# Altium footprint library PCBLib_Bonjour.PcbLib: 10 footprints
Each footprint in its own frame and in the unit in brackets; x right, y up, seen from the top. Pads: shape width x height; smd on the part's side, far side on the other; paste and mask are expansions set on the pad; w line width, h text height; cw(c..) or ccw(c..) is an arc to the next point about the centre after c.
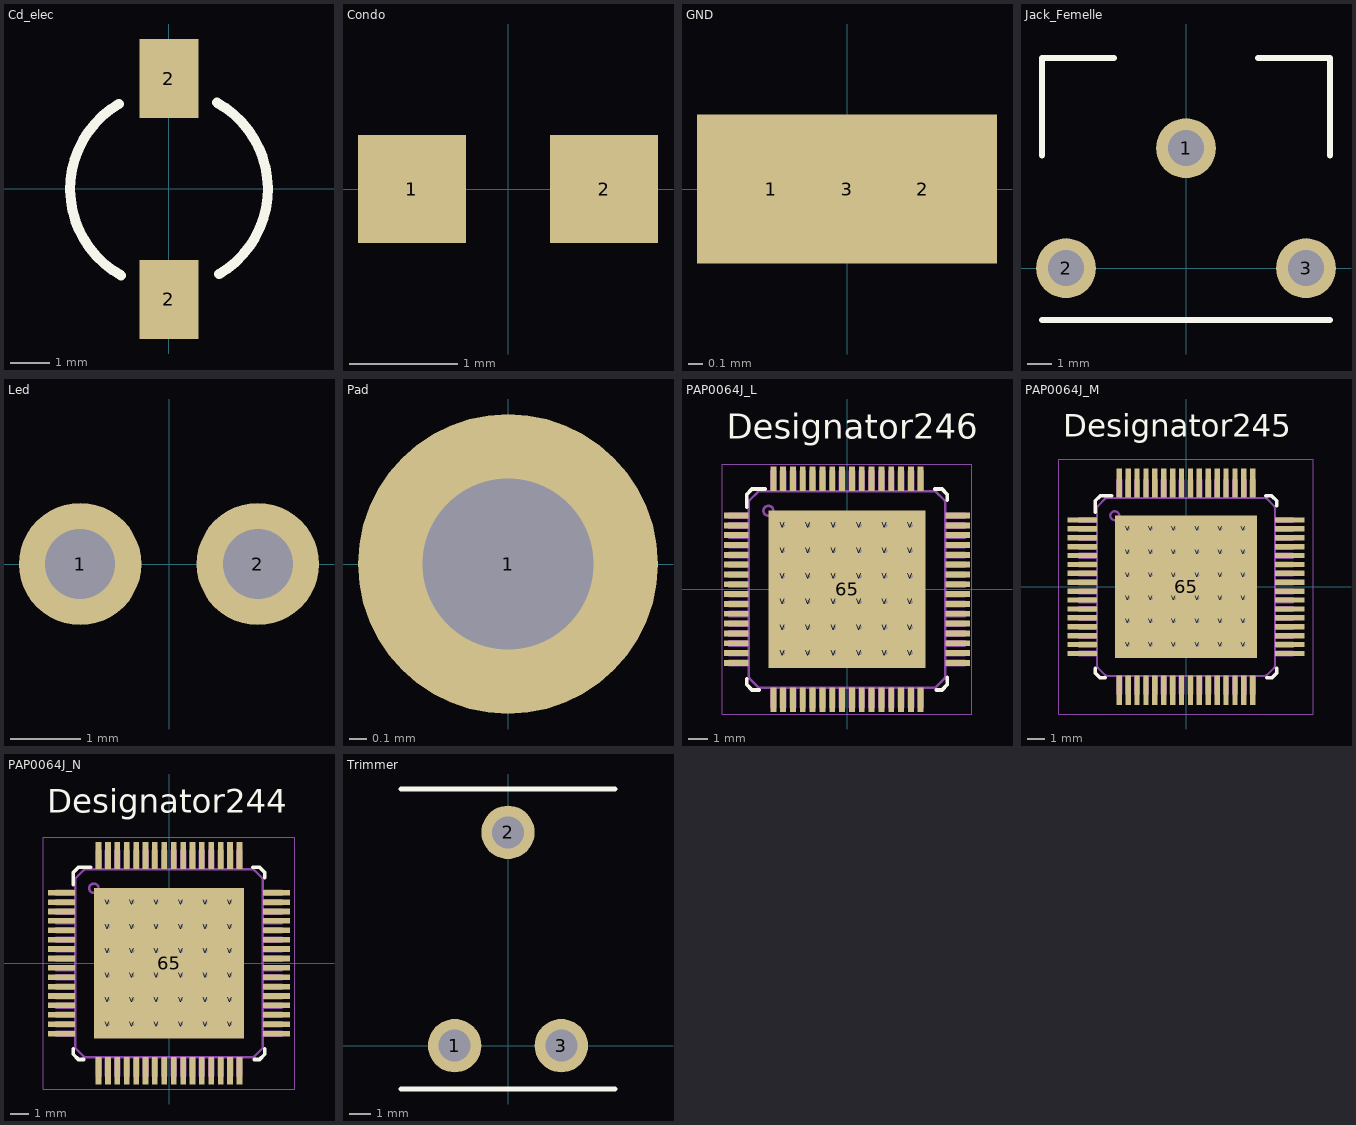
[diagram p0: the footprints below, top view; thin cyan lines are the x and y axes]

## Cd_elec [mm]
pads (2):
  rect 1.5x2 smd: 2(0,-2.794) 2(0,2.794)
Top Overlay:
  lines w0.254: -1.268,2.155 ccw(c0,0) -1.214,-2.185 ; 1.214,2.185 cw(c0,0) 1.268,-2.155

## Condo [mm]
pads (2):
  rect 1x1 smd: 1(-0.889,0) 2(0.889,0)

## GND [mm]
pads (3):
  rect 1x1 smd mask+0: 1(-0.508,0) 2(0.508,0) 3(0,0)

## Jack_Femelle [mm]
pads (3):
  round 2.5 hole 1.5: 1(0,5) 2(-5,0) 3(5,0)
Top Overlay:
  lines w0.254: -6,-2.159 6,-2.159 ; -6,4.699 -6,6.032 -6,8.763 -3,8.763 ; 3,8.763 6,8.763 6,6.032 6,4.699

## Led [mm]
pads (2):
  round 1.75 hole 1: 1(-1.27,0) 2(1.27,0)

## Pad [mm]
pads (1):
  round 1.75 hole 1: 1(0,0)

## PAP0064J_L [mm]
pads (101):
  rect 1.25x0.3 smd paste+0 mask+0.051: 1(-5.625,3.75) 2(-5.625,3.25) 3(-5.625,2.75) 4(-5.625,2.25) 5(-5.625,1.75) 6(-5.625,1.25) 7(-5.625,0.75) 8(-5.625,0.25) 9(-5.625,-0.25) 10(-5.625,-0.75) 11(-5.625,-1.25) 12(-5.625,-1.75) 13(-5.625,-2.25) 14(-5.625,-2.75) 15(-5.625,-3.25) 16(-5.625,-3.75) 33(5.625,-3.75) 34(5.625,-3.25) 35(5.625,-2.75) 36(5.625,-2.25) 37(5.625,-1.75) 38(5.625,-1.25) 39(5.625,-0.75) 40(5.625,-0.25) 41(5.625,0.25) 42(5.625,0.75) 43(5.625,1.25) 44(5.625,1.75) 45(5.625,2.25) 46(5.625,2.75) 47(5.625,3.25) 48(5.625,3.75)
  rect 0.3x1.25 smd paste+0 mask+0.051: 17(-3.75,-5.625) 18(-3.25,-5.625) 19(-2.75,-5.625) 20(-2.25,-5.625) 21(-1.75,-5.625) 22(-1.25,-5.625) 23(-0.75,-5.625) 24(-0.25,-5.625) 25(0.25,-5.625) 26(0.75,-5.625) 27(1.25,-5.625) 28(1.75,-5.625) 29(2.25,-5.625) 30(2.75,-5.625) 31(3.25,-5.625) 32(3.75,-5.625) 49(3.75,5.625) 50(3.25,5.625) 51(2.75,5.625) 52(2.25,5.625) 53(1.75,5.625) 54(1.25,5.625) 55(0.75,5.625) 56(0.25,5.625) 57(-0.25,5.625) 58(-0.75,5.625) 59(-1.25,5.625) 60(-1.75,5.625) 61(-2.25,5.625) 62(-2.75,5.625) 63(-3.25,5.625) 64(-3.75,5.625)
  rect 8x8 smd paste-3.987 mask-3.988: 65(0,0)
  round 0.5 / inner round 1.524 / far side round 0.5 hole 0.203 mask-0.241: V(-3.25,-3.25) V(-3.25,-1.95) V(-3.25,-0.65) V(-3.25,0.65) V(-3.25,1.95) V(-3.25,3.25) V(-1.95,-3.25) V(-1.95,-1.95) V(-1.95,-0.65) V(-1.95,0.65) V(-1.95,1.95) V(-1.95,3.25) V(-0.65,-3.25) V(-0.65,-1.95) V(-0.65,-0.65) V(-0.65,0.65) V(-0.65,1.95) V(-0.65,3.25) V(0.65,-3.25) V(0.65,-1.95) V(0.65,-0.65) V(0.65,0.65) V(0.65,1.95) V(0.65,3.25) V(1.95,-3.25) V(1.95,-1.95) V(1.95,-0.65) V(1.95,0.65) V(1.95,1.95) V(1.95,3.25) V(3.25,-3.25) V(3.25,-1.95) V(3.25,-0.65) V(3.25,0.65) V(3.25,1.95) V(3.25,3.25)
Top Overlay:
  lines w0.2: -5.1,-4.575 -5.1,-4.85 -4.825,-5.125 ; -5.1,4.175 -5.1,4.55 -5.1,4.75 -5.1,4.825 -4.825,5.1 -4.175,5.1 ; -4.75,-5.125 -4.55,-5.125 -4.475,-5.125 ; 4.475,5.1 4.55,5.1 4.75,5.1 ; 4.55,-5.125 4.825,-5.125 5.1,-4.85 ; 4.825,5.1 5.1,4.825 5.1,4.55 ; 5.1,-4.775 5.1,-4.575 5.1,-4.5
  text "Designator246" at -6.121,7.645 h1.27
  text "TOL" at 0,0 h1.27
  text "VAL" at 0,0 h1.27
  text "PN" at 0,0 h1.27
  text "DEV" at 0,0 h1.27
Top Paste:
  region: -3.499,-3.602 -3.5,-3.595 -3.5,3.595 -3.499,3.602 -3.497,3.608 -3.494,3.614 -3.49,3.62 -3.484,3.624 -3.478,3.627 -3.472,3.629 -3.465,3.63 3.465,3.63 3.472,3.629 3.478,3.627 3.484,3.624 3.49,3.62 3.494,3.614 3.497,3.608 3.499,3.602 3.5,3.595 3.5,-3.595 3.499,-3.602 3.497,-3.608 3.494,-3.614 3.49,-3.62 3.484,-3.624 3.478,-3.627 3.472,-3.629 3.465,-3.63 -3.465,-3.63 -3.472,-3.629 -3.478,-3.627 -3.484,-3.624 -3.49,-3.62 -3.494,-3.614 -3.497,-3.608
Top Solder:
  region: -3.499,-3.602 -3.5,-3.595 -3.5,3.595 -3.499,3.602 -3.497,3.608 -3.494,3.614 -3.49,3.62 -3.484,3.624 -3.478,3.627 -3.472,3.629 -3.465,3.63 3.465,3.63 3.472,3.629 3.478,3.627 3.484,3.624 3.49,3.62 3.494,3.614 3.497,3.608 3.499,3.602 3.5,3.595 3.5,-3.595 3.499,-3.602 3.497,-3.608 3.494,-3.614 3.49,-3.62 3.484,-3.624 3.478,-3.627 3.472,-3.629 3.465,-3.63 -3.465,-3.63 -3.472,-3.629 -3.478,-3.627 -3.484,-3.624 -3.49,-3.62 -3.494,-3.614 -3.497,-3.608
Mechanical 13:
  drawing of 785 lines, arcs and shapes, not listed
  text ".Designator" at -1.854,-0.508 h1.27
Mechanical 15:
  lines w0.05: -6.35,-6.35 -6.35,6.35 6.35,6.35 6.35,-6.35 -6.35,-6.35
  lines w0.1: -0.5,0 0.5,0 ; 0,-0.5 0,0.5
3D body: height 0.25, standoff 0, extent 0,0 0.254,0.254

## PAP0064J_M [mm]
pads (101):
  rect 1.65x0.3 smd paste+0 mask+0.051: 1(-5.825,3.75) 2(-5.825,3.25) 3(-5.825,2.75) 4(-5.825,2.25) 5(-5.825,1.75) 6(-5.825,1.25) 7(-5.825,0.75) 8(-5.825,0.25) 9(-5.825,-0.25) 10(-5.825,-0.75) 11(-5.825,-1.25) 12(-5.825,-1.75) 13(-5.825,-2.25) 14(-5.825,-2.75) 15(-5.825,-3.25) 16(-5.825,-3.75) 33(5.825,-3.75) 34(5.825,-3.25) 35(5.825,-2.75) 36(5.825,-2.25) 37(5.825,-1.75) 38(5.825,-1.25) 39(5.825,-0.75) 40(5.825,-0.25) 41(5.825,0.25) 42(5.825,0.75) 43(5.825,1.25) 44(5.825,1.75) 45(5.825,2.25) 46(5.825,2.75) 47(5.825,3.25) 48(5.825,3.75)
  rect 0.3x1.65 smd paste+0 mask+0.051: 17(-3.75,-5.825) 18(-3.25,-5.825) 19(-2.75,-5.825) 20(-2.25,-5.825) 21(-1.75,-5.825) 22(-1.25,-5.825) 23(-0.75,-5.825) 24(-0.25,-5.825) 25(0.25,-5.825) 26(0.75,-5.825) 27(1.25,-5.825) 28(1.75,-5.825) 29(2.25,-5.825) 30(2.75,-5.825) 31(3.25,-5.825) 32(3.75,-5.825) 49(3.75,5.825) 50(3.25,5.825) 51(2.75,5.825) 52(2.25,5.825) 53(1.75,5.825) 54(1.25,5.825) 55(0.75,5.825) 56(0.25,5.825) 57(-0.25,5.825) 58(-0.75,5.825) 59(-1.25,5.825) 60(-1.75,5.825) 61(-2.25,5.825) 62(-2.75,5.825) 63(-3.25,5.825) 64(-3.75,5.825)
  rect 8x8 smd paste-3.987 mask-3.988: 65(0,0)
  round 0.5 / inner round 1.524 / far side round 0.5 hole 0.203 mask-0.241: V(-3.25,-3.25) V(-3.25,-1.95) V(-3.25,-0.65) V(-3.25,0.65) V(-3.25,1.95) V(-3.25,3.25) V(-1.95,-3.25) V(-1.95,-1.95) V(-1.95,-0.65) V(-1.95,0.65) V(-1.95,1.95) V(-1.95,3.25) V(-0.65,-3.25) V(-0.65,-1.95) V(-0.65,-0.65) V(-0.65,0.65) V(-0.65,1.95) V(-0.65,3.25) V(0.65,-3.25) V(0.65,-1.95) V(0.65,-0.65) V(0.65,0.65) V(0.65,1.95) V(0.65,3.25) V(1.95,-3.25) V(1.95,-1.95) V(1.95,-0.65) V(1.95,0.65) V(1.95,1.95) V(1.95,3.25) V(3.25,-3.25) V(3.25,-1.95) V(3.25,-0.65) V(3.25,0.65) V(3.25,1.95) V(3.25,3.25)
Top Overlay:
  lines w0.2: -5.1,-4.575 -5.1,-4.85 -4.825,-5.125 ; -5.1,4.175 -5.1,4.8 ; -5.1,4.825 -4.825,5.1 -4.175,5.1 ; -4.75,-5.125 -4.55,-5.125 ; 4.475,5.1 4.55,5.1 4.75,5.1 ; 4.55,-5.125 4.825,-5.125 5.1,-4.85 ; 4.825,5.1 5.1,4.825 5.1,4.55 ; 5.1,-4.775 5.1,-4.575
  text "DEV" at 0,0 h1.27
  text "PN" at 0,0 h1.27
  text "VAL" at 0,0 h1.27
  text "TOL" at 0,0 h1.27
  text "Designator245" at -6.909,8.433 h1.27
Top Paste:
  region: -3.499,-3.602 -3.5,-3.595 -3.5,3.595 -3.499,3.602 -3.497,3.608 -3.494,3.614 -3.49,3.62 -3.484,3.624 -3.478,3.627 -3.472,3.629 -3.465,3.63 3.465,3.63 3.472,3.629 3.478,3.627 3.484,3.624 3.49,3.62 3.494,3.614 3.497,3.608 3.499,3.602 3.5,3.595 3.5,-3.595 3.499,-3.602 3.497,-3.608 3.494,-3.614 3.49,-3.62 3.484,-3.624 3.478,-3.627 3.472,-3.629 3.465,-3.63 -3.465,-3.63 -3.472,-3.629 -3.478,-3.627 -3.484,-3.624 -3.49,-3.62 -3.494,-3.614 -3.497,-3.608
Top Solder:
  region: -3.499,-3.602 -3.5,-3.595 -3.5,3.595 -3.499,3.602 -3.497,3.608 -3.494,3.614 -3.49,3.62 -3.484,3.624 -3.478,3.627 -3.472,3.629 -3.465,3.63 3.465,3.63 3.472,3.629 3.478,3.627 3.484,3.624 3.49,3.62 3.494,3.614 3.497,3.608 3.499,3.602 3.5,3.595 3.5,-3.595 3.499,-3.602 3.497,-3.608 3.494,-3.614 3.49,-3.62 3.484,-3.624 3.478,-3.627 3.472,-3.629 3.465,-3.63 -3.465,-3.63 -3.472,-3.629 -3.478,-3.627 -3.484,-3.624 -3.49,-3.62 -3.494,-3.614 -3.497,-3.608
Mechanical 13:
  drawing of 786 lines, arcs and shapes, not listed
  text ".Designator" at -1.854,-0.508 h1.27
Mechanical 15:
  lines w0.05: -7.15,-7.15 -7.15,7.15 7.15,7.15 7.15,-7.15 -7.15,-7.15
  lines w0.1: -0.5,0 0.5,0 ; 0,-0.5 0,0.5
3D body: height 0.25, standoff 0, extent 0,0 0.254,0.254

## PAP0064J_N [mm]
pads (101):
  rect 1.45x0.3 smd paste+0 mask+0.051: 1(-5.725,3.75) 2(-5.725,3.25) 3(-5.725,2.75) 4(-5.725,2.25) 5(-5.725,1.75) 6(-5.725,1.25) 7(-5.725,0.75) 8(-5.725,0.25) 9(-5.725,-0.25) 10(-5.725,-0.75) 11(-5.725,-1.25) 12(-5.725,-1.75) 13(-5.725,-2.25) 14(-5.725,-2.75) 15(-5.725,-3.25) 16(-5.725,-3.75) 33(5.725,-3.75) 34(5.725,-3.25) 35(5.725,-2.75) 36(5.725,-2.25) 37(5.725,-1.75) 38(5.725,-1.25) 39(5.725,-0.75) 40(5.725,-0.25) 41(5.725,0.25) 42(5.725,0.75) 43(5.725,1.25) 44(5.725,1.75) 45(5.725,2.25) 46(5.725,2.75) 47(5.725,3.25) 48(5.725,3.75)
  rect 0.3x1.45 smd paste+0 mask+0.051: 17(-3.75,-5.725) 18(-3.25,-5.725) 19(-2.75,-5.725) 20(-2.25,-5.725) 21(-1.75,-5.725) 22(-1.25,-5.725) 23(-0.75,-5.725) 24(-0.25,-5.725) 25(0.25,-5.725) 26(0.75,-5.725) 27(1.25,-5.725) 28(1.75,-5.725) 29(2.25,-5.725) 30(2.75,-5.725) 31(3.25,-5.725) 32(3.75,-5.725) 49(3.75,5.725) 50(3.25,5.725) 51(2.75,5.725) 52(2.25,5.725) 53(1.75,5.725) 54(1.25,5.725) 55(0.75,5.725) 56(0.25,5.725) 57(-0.25,5.725) 58(-0.75,5.725) 59(-1.25,5.725) 60(-1.75,5.725) 61(-2.25,5.725) 62(-2.75,5.725) 63(-3.25,5.725) 64(-3.75,5.725)
  rect 8x8 smd paste-3.987 mask-3.988: 65(0,0)
  round 0.5 / inner round 1.524 / far side round 0.5 hole 0.203 mask-0.241: V(-3.25,-3.25) V(-3.25,-1.95) V(-3.25,-0.65) V(-3.25,0.65) V(-3.25,1.95) V(-3.25,3.25) V(-1.95,-3.25) V(-1.95,-1.95) V(-1.95,-0.65) V(-1.95,0.65) V(-1.95,1.95) V(-1.95,3.25) V(-0.65,-3.25) V(-0.65,-1.95) V(-0.65,-0.65) V(-0.65,0.65) V(-0.65,1.95) V(-0.65,3.25) V(0.65,-3.25) V(0.65,-1.95) V(0.65,-0.65) V(0.65,0.65) V(0.65,1.95) V(0.65,3.25) V(1.95,-3.25) V(1.95,-1.95) V(1.95,-0.65) V(1.95,0.65) V(1.95,1.95) V(1.95,3.25) V(3.25,-3.25) V(3.25,-1.95) V(3.25,-0.65) V(3.25,0.65) V(3.25,1.95) V(3.25,3.25)
Top Overlay:
  lines w0.2: -5.1,-4.575 -5.1,-4.85 -4.825,-5.125 ; -5.1,4.175 -5.1,4.8 ; -5.1,4.825 -4.825,5.1 -4.175,5.1 ; -4.75,-5.125 -4.55,-5.125 ; 4.475,5.1 4.55,5.1 4.75,5.1 ; 4.55,-5.125 4.825,-5.125 5.1,-4.85 ; 4.825,5.1 5.1,4.825 5.1,4.55 ; 5.1,-4.775 5.1,-4.575
  text "DEV" at 0,0 h1.27
  text "PN" at 0,0 h1.27
  text "VAL" at 0,0 h1.27
  text "TOL" at 0,0 h1.27
  text "Designator244" at -6.477,8.001 h1.27
Top Paste:
  region: -3.499,-3.602 -3.5,-3.595 -3.5,3.595 -3.499,3.602 -3.497,3.608 -3.494,3.614 -3.49,3.62 -3.484,3.624 -3.478,3.627 -3.472,3.629 -3.465,3.63 3.465,3.63 3.472,3.629 3.478,3.627 3.484,3.624 3.49,3.62 3.494,3.614 3.497,3.608 3.499,3.602 3.5,3.595 3.5,-3.595 3.499,-3.602 3.497,-3.608 3.494,-3.614 3.49,-3.62 3.484,-3.624 3.478,-3.627 3.472,-3.629 3.465,-3.63 -3.465,-3.63 -3.472,-3.629 -3.478,-3.627 -3.484,-3.624 -3.49,-3.62 -3.494,-3.614 -3.497,-3.608
Top Solder:
  region: -3.499,-3.602 -3.5,-3.595 -3.5,3.595 -3.499,3.602 -3.497,3.608 -3.494,3.614 -3.49,3.62 -3.484,3.624 -3.478,3.627 -3.472,3.629 -3.465,3.63 3.465,3.63 3.472,3.629 3.478,3.627 3.484,3.624 3.49,3.62 3.494,3.614 3.497,3.608 3.499,3.602 3.5,3.595 3.5,-3.595 3.499,-3.602 3.497,-3.608 3.494,-3.614 3.49,-3.62 3.484,-3.624 3.478,-3.627 3.472,-3.629 3.465,-3.63 -3.465,-3.63 -3.472,-3.629 -3.478,-3.627 -3.484,-3.624 -3.49,-3.62 -3.494,-3.614 -3.497,-3.608
Mechanical 13:
  drawing of 786 lines, arcs and shapes, not listed
  text ".Designator" at -1.854,-0.508 h1.27
Mechanical 15:
  lines w0.05: -6.7,-6.7 -6.7,6.7 6.7,6.7 6.7,-6.7 -6.7,-6.7
  lines w0.1: -0.5,0 0.5,0 ; 0,-0.5 0,0.5
3D body: height 0.25, standoff 0, extent 0,0 0.254,0.254

## Trimmer [mm]
pads (3):
  round 2.5 hole 1.5: 1(-2.5,0) 2(0,10) 3(2.5,0)
Top Overlay:
  lines w0.254: -5,-2.032 5,-2.032 ; -5,12.032 5,12.032